# EAGLE library part BQ24040 (library chips)
1A, Single-Input, Single Cell Li-Ion and Li-Pol Battery Charger
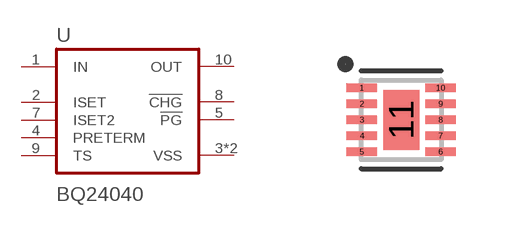
[diagram p110: symbol with the pads of SON40P200X200X80-11N; footprint SON40P200X200X80-11N]

Designator prefix U

## BQ24040 (DIGIKEY: 296-37142-1-ND; MANUFACTURER: Texas Instruments; MPN: BQ24040DSQR)  [SON40P200X200X80-11N]
1  IN  in
2  ISET  in
3  VSS  pwr
4  PRETERM  in
5  !PG  out
7  ISET2  in
8  !CHG  out
9  TS  in
10  OUT  out
11  VSS  pwr

## Footprint SON40P200X200X80-11N (pad centres in mm)
smd 0.76 x 0.22: 1 -0.985,0.8; 2 -0.985,0.4; 3 -0.985,0; 4 -0.985,-0.4; 5 -0.985,-0.8; 6 0.985,-0.8; 7 0.985,-0.4; 8 0.985,0; 9 0.985,0.4; 10 0.985,0.8
smd 0.9 x 1.5: 11 0,0